# Altium integrated library TPS26400RHFR.IntLib: 2 symbols
Pins are listed as number, name and electrical type; pins without a type are passive.

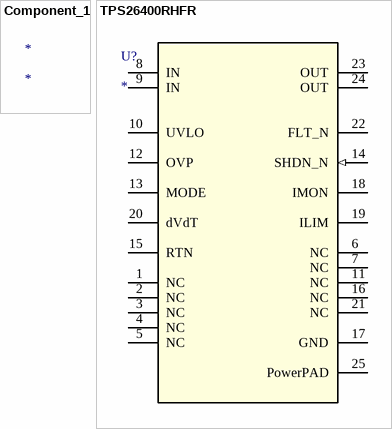
[diagram p0: symbols Component_1 to TPS26400RHFR]

## Component_1
designator *

## TPS26400RHFR
designator U?
No Description Available; Mfr_Name: Texas Instruments; TYPE: TYPE; RefDes: RefDes
footprint RHF0024A-IPC_A
pins: 1 NC, 2 NC, 3 NC, 4 NC, 5 NC, 6 NC, 7 NC, 8 IN (power), 9 IN (power), 10 UVLO, 11 NC, 12 OVP, 13 MODE, 14 SHDN_N (in), 15 RTN, 16 NC, 17 GND (power), 18 IMON, 19 ILIM, 20 dVdT, 21 NC, 22 FLT_N (oc), 23 OUT (power), 24 OUT (power), 25 PowerPAD